# Altium footprint library BERGSTIK-4PIN-2R-2.54MM.PcbLib: 1 footprints
Each footprint in its own frame and in the unit in brackets; x right, y up, seen from the top. Pads: shape width x height; smd on the part's side, far side on the other; paste and mask are expansions set on the pad; w line width, h text height; cw(c..) or ccw(c..) is an arc to the next point about the centre after c.
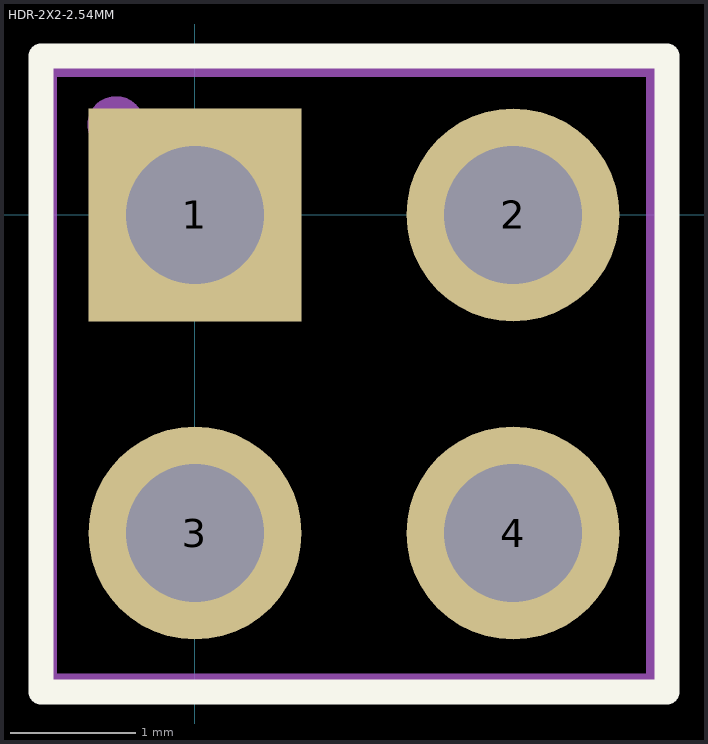
[diagram p0: the footprint, top view; thin cyan lines are the x and y axes]

## HDR-2X2-2.54MM [mm]
pads (4):
  rect 1.7x1.7 hole 1.1: 1(0,0)
  round 1.7 hole 1.1: 2(2.54,0) 3(0,-2.54) 4(2.54,-2.54)
Top Overlay:
  lines w0.2: -1.23,-3.81 3.77,-3.81 3.77,1.27 -1.23,1.27 -1.23,-3.81
Mechanical 29:
  circle w0.254: c-0.63,0.72 r0.1
  lines w0.2: -1.2,-3.76 3.7,-3.76 3.7,1.2 -1.2,1.2 -1.2,-3.76
  text ".Designator" at -0.254,-1.524 h0.76
3D body "67997-204HLF.stp": height 8.33, standoff -3.86, extent -1.17,-3.683 3.81,1.143